# Altium integrated library LM4040AIM3-3_0-T.IntLib: 1 symbol
Pins are listed as number, name and electrical type; pins without a type are passive.

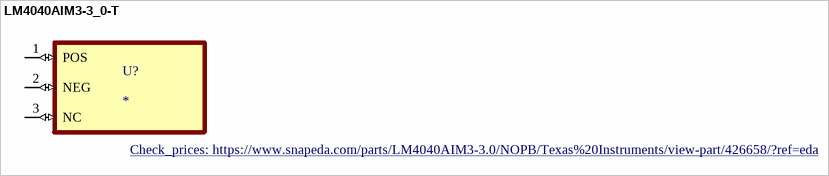
[diagram p0: symbol LM4040AIM3-3_0-T]

## LM4040AIM3-3_0-T
designator U?
100-ppm/C precision micropower shunt voltage reference 3-SOT-23; MP: LM4040AIM3-3.0/NOPB; MF: Texas Instruments; DigiKey-Purchase-URL: https://snapeda.com/shop?store=DigiKey&id=426658; Arrow_Asia-Purchase-URL: https://snapeda.com/shop?store=Arrow+Asia&id=426658; SnapEDA_Link: https://www.snapeda.com/parts/LM4040AIM3-3.0/NOPB/Texas%20Instruments/view-part/426658/?ref=snap; Arrow_Electronics-Purchase-URL: https://snapeda.com/shop?store=Arrow+Electronics&id=426658; Availability: Good; Mouser-Purchase-URL: https://snapeda.com/shop?store=Mouser&id=426658; Package: SOT-23-3 Texas Instruments; Texas_Instruments-Purchase-URL: https://snapeda.com/shop?store=Texas+Instruments&id=426658; Value: *; Price: None; Check_prices: https://www.snapeda.com/parts/LM4040AIM3-3.0/NOPB/Texas%20Instruments/view-part/426658/?ref=eda
footprint SOT95P237X112-3N
pins: 1 POS (io), 2 NEG (io), 3 NC (io)